# Altium schematic symbol library REF3233.SchLib: 1 symbol
Pins are listed as number, name and electrical type; pins without a type are passive.

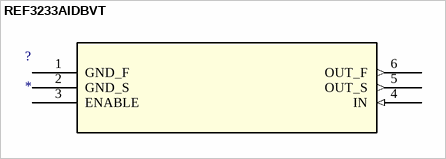
[diagram p0: symbol REF3233AIDBVT]

## REF3233AIDBVT
designator ?
Imported; Manufacturer: Texas Instruments; GENERIC_PART_NUMBER: REF3233; Manufacturer_Part_Number: ref3233_dbv_6; INDUSTRY_STD_PKG_TYPE: SOT-23; FAMILY_NAME: SERIES VOLTAGE REFERENCE; PIN_COUNT: 6; PACKAGE_DESIGNATOR: DBV; C: Copyright (C) 2015 Accelerated Designs. All rights reserved; Datasheet URL: http://www.ti.com/lit/gpn/REF3233; Vendor: Texas Instruments; Copyright: Copyright (C) 2015 Accelerated Designs. All rights reserved; RefDes: RefDes; Type: DEV; Value: Value
footprint DBV6
pins: 1 GND_F, 2 GND_S, 3 ENABLE, 4 IN (in), 5 OUT_S (out), 6 OUT_F (out)